# Altium schematic symbol library VOLTAGE_REG(STEP_DOWN, 400mA, 12WSON).SchLib: 1 symbol
Pins are listed as number, name and electrical type; pins without a type are passive.

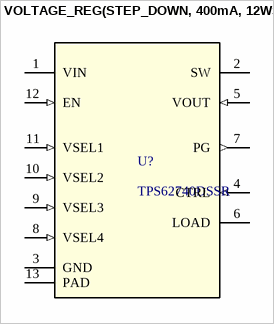
[diagram p0: symbol VOLTAGE_REG(STEP_DOWN, 400mA, 12WSON)]

## VOLTAGE_REG(STEP_DOWN, 400mA, 12WSON)
designator U?, comment TPS62740DSSR
2.2V-5.5V input, ultra-low-power 300mA step-down buck DCDC converter with 360nA Iq 12-WSON -40 to 85; Manufacturerr: Texas Instruments; Manufacturer_PN: TPS62740DSSR; Package: 12WSON; Datasheet: https://www.ti.com/lit/ds/symlink/tps62740.pdf?HQS=dis-dk-null-digikeymode-dsf-pf-null-wwe&ts=1763914940091; Rule: *; Digikey_Link: https://www.digikey.it/en/products/detail/texas-instruments/TPS62740DSSR/4515200
footprint DSS0012A
pins: 1 VIN (power), 2 SW (power), 3 GND (power), 4 CTRL (in), 5 VOUT (in), 6 LOAD (power), 7 PG (out), 8 VSEL4 (in), 9 VSEL3 (in), 10 VSEL2 (in), 11 VSEL1 (in), 12 EN (in), 13 PAD (power)